# EAGLE library part OV7670 (library Chao)
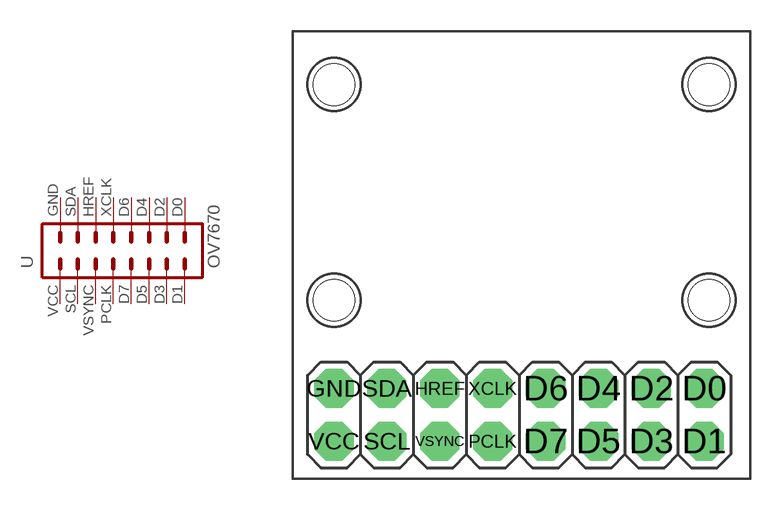
[diagram p7: symbol with the pads of OV7670; footprint OV7670]

Designator prefix -

## OV7670  [OV7670]
D0  D0  pas
D1  D1  pas
D2  D2  pas
D3  D3  pas
D4  D4  pas
D5  D5  pas
D6  D6  pas
D7  D7  pas
GND  GND  pas
HREF  HREF  pas
PCLK  PCLK  pas
SCL  SCL  pas
SDA  SDA  pas
VCC  VCC  pas
VSYNC  VSYNC  pas
XCLK  XCLK  pas

## Footprint OV7670 (pad centres in mm)
drill 1.016 pad 1.88 octagon: D0 19.812,4.572; D1 19.812,2.032; D2 17.272,4.572; D3 17.272,2.032; D4 14.732,4.572; D5 14.732,2.032; D6 12.192,4.572; D7 12.192,2.032; GND 2.032,4.572; HREF 7.112,4.572; PCLK 9.652,2.032; SCL 4.572,2.032; SDA 4.572,4.572; VCC 2.032,2.032; VSYNC 7.112,2.032; XCLK 9.652,4.572
hole 2 at 20.041,19.177
hole 2 at 20.041,8.814
hole 2 at 2.032,8.814
hole 2 at 2.032,19.177